# Altium footprint library Keebs.PcbLib: 219 footprints (part 9 of 14)
Each footprint in its own frame and in the unit in brackets; x right, y up, seen from the top. Pads: shape width x height; smd on the part's side, far side on the other; paste and mask are expansions set on the pad; w line width, h text height; cw(c..) or ccw(c..) is an arc to the next point about the centre after c.
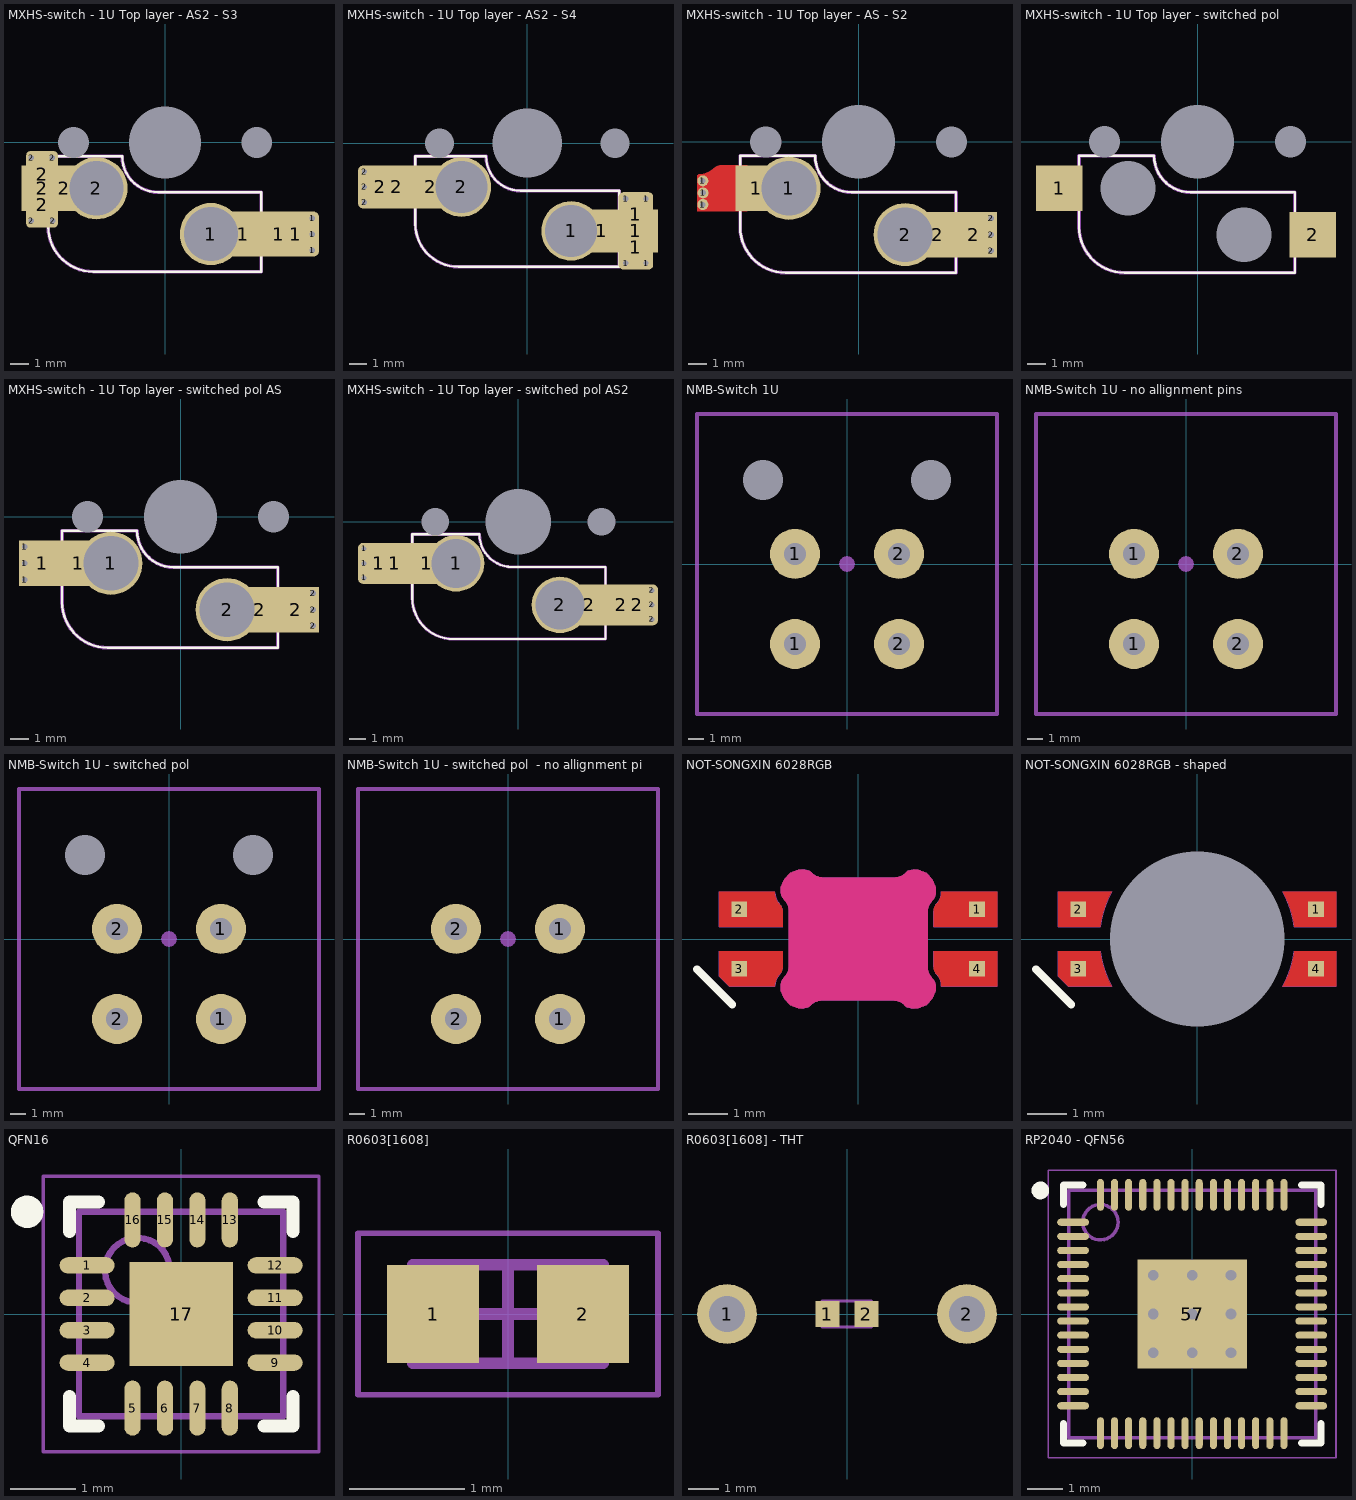
[diagram p8: the footprints below, top view; thin cyan lines are the x and y axes]

## MXHS-switch - 1U Top layer - AS2 - S3 [mm]
pads (19):
  round 3.45 hole 3 mask+0: 1(2.54,-5.08) 2(-3.81,-2.54)
  rect 2.55x2.5 smd paste-40 mask+0.102: 1(4.318,-5.08) 2(-5.588,-2.54)
  rect 2.55x2.5 smd: 1(6.29,-5.08)
  rrect25% 2.55x2.5 smd paste-40 mask+0.102: 1(7.25,-5.08)
  round 0.6 hole 0.3 mask+0.102: 1(8.15,-5.969) 1(8.15,-5.08) 1(8.15,-4.191) 2(-7.412,-4.349) 2(-7.412,-0.858) 2(-6.25,-0.858) 2(-6.234,-4.349)
  rrect25% 1.75x2.55 smd paste-40 mask+0.102: 2(-6.823,-3.449) 2(-6.823,-1.758)
  rect 2.3x2.5 smd: 2(-6.8,-2.54)
  round 1 hole 1.7 unplated: ""(-5.08,0) ""(5.08,0)
  round 1 hole 4 unplated: ""(0,0)
Top Overlay:
  lines w0.127: -6.481,-4.662 ccw(c-3.981,-4.662) -3.981,-7.162 5.319,-7.162 5.319,-2.762 -0.381,-2.762 cw(c-0.381,-0.762) -2.381,-0.762 -6.481,-0.762 -6.481,-4.662
Mechanical 13:
  lines w0.1: -0.5,0 0.5,0 ; 0,-0.5 0,0.5
  lines w0.2: -6.481,-4.662 ccw(c-3.981,-4.662) -3.981,-7.162 5.319,-7.162 5.319,-2.762 -0.381,-2.762 cw(c-0.381,-0.762) -2.381,-0.762 -6.481,-0.762 -6.481,-4.662
  text ".Designator" at 3.048,-4.826 h0.7
Mechanical 15:
  lines w0.1: -1.77,0 -0.77,0 ; 0,-0.5 0,0.5
  lines w0.127: -6.481,-4.662 ccw(c-3.981,-4.662) -3.981,-7.162 5.319,-7.162 5.319,-2.762 -0.381,-2.762 cw(c-0.381,-0.762) -2.381,-0.762 -6.481,-0.762 -6.481,-4.662
3D body "kailh_socket_mx.stp": height -0.35, standoff -3.4, extent -7.9,-6.745 6.6,-0.855

## MXHS-switch - 1U Top layer - AS2 - S4 [mm]
pads (19):
  round 3.45 hole 3 mask+0: 1(2.54,-5.08) 2(-3.81,-2.54)
  rect 2.55x2.5 smd paste-40 mask+0.102: 1(4.318,-5.08) 2(-5.588,-2.54)
  round 0.6 hole 0.3 mask+0.102: 1(5.701,-6.94) 1(5.701,-3.22) 1(6.879,-6.94) 1(6.879,-3.22) 2(-9.42,-3.429) 2(-9.42,-2.54) 2(-9.42,-1.651)
  rrect25% 2x2.55 smd paste-40 mask+0.102: 1(6.29,-6.04) 1(6.29,-4.12)
  rect 2.55x2.5 smd: 1(6.29,-5.08) 2(-7.56,-2.54)
  rrect25% 2.55x2.5 smd paste-40 mask+0.102: 2(-8.52,-2.54)
  round 1 hole 1.7 unplated: ""(-5.08,0) ""(5.08,0)
  round 1 hole 4 unplated: ""(0,0)
Top Overlay:
  lines w0.127: -6.481,-4.662 ccw(c-3.981,-4.662) -3.981,-7.162 5.319,-7.162 5.319,-2.762 -0.381,-2.762 cw(c-0.381,-0.762) -2.381,-0.762 -6.481,-0.762 -6.481,-4.662
Mechanical 13:
  lines w0.1: -0.5,0 0.5,0 ; 0,-0.5 0,0.5
  lines w0.2: -6.481,-4.662 ccw(c-3.981,-4.662) -3.981,-7.162 5.319,-7.162 5.319,-2.762 -0.381,-2.762 cw(c-0.381,-0.762) -2.381,-0.762 -6.481,-0.762 -6.481,-4.662
  text ".Designator" at 3.048,-4.826 h0.7
Mechanical 15:
  lines w0.1: -1.77,0 -0.77,0 ; 0,-0.5 0,0.5
  lines w0.127: -6.481,-4.662 ccw(c-3.981,-4.662) -3.981,-7.162 5.319,-7.162 5.319,-2.762 -0.381,-2.762 cw(c-0.381,-0.762) -2.381,-0.762 -6.481,-0.762 -6.481,-4.662
3D body "kailh_socket_mx.stp": height -0.35, standoff -3.4, extent -7.9,-6.745 6.6,-0.855

## MXHS-switch - 1U Top layer - AS - S2 [mm] "Adjusted footprint to prevent conflict with tray mount mounting hole"
pads (14):
  round 0.6 hole 0.3 mask+0.102: 1(-8.52,-3.429) 1(-8.52,-2.134) 1(-8.509,-2.794) 2(7.25,-5.969) 2(7.25,-5.08) 2(7.25,-4.191)
  rect 2.3x2.492 smd paste-40 mask+0.102: 1(-5.588,-2.54)
  round 3.45 hole 3 mask+0: 1(-3.81,-2.54) 2(2.54,-5.08)
  rect 2.55x2.5 smd paste-40 mask+0.102: 2(4.318,-5.08)
  rect 2.55x2.5 smd: 2(6.29,-5.08)
  round 1 hole 1.7 unplated: ""(-5.08,0) ""(5.08,0)
  round 1 hole 4 unplated: ""(0,0)
Top Layer:
  region: -6.096,-1.295 -6.096,-3.785 -8.839,-3.785 -8.839,-1.905 -8.839,-1.88 -8.82,-1.833 -8.784,-1.797 -8.737,-1.778 -8.712,-1.778 -8.606,-1.773 -8.398,-1.731 -8.201,-1.65 -8.025,-1.532 -7.946,-1.46 -7.906,-1.421 -7.814,-1.36 -7.712,-1.317 -7.603,-1.295 -7.547,-1.295
Top Overlay:
  lines w0.127: -6.481,-4.662 ccw(c-3.981,-4.662) -3.981,-7.162 5.319,-7.162 5.319,-2.762 -0.381,-2.762 cw(c-0.381,-0.762) -2.381,-0.762 -6.481,-0.762 -6.481,-4.662
Mechanical 13:
  lines w0.1: -0.5,0 0.5,0 ; 0,-0.5 0,0.5
  lines w0.2: -6.481,-4.662 ccw(c-3.981,-4.662) -3.981,-7.162 5.319,-7.162 5.319,-2.762 -0.381,-2.762 cw(c-0.381,-0.762) -2.381,-0.762 -6.481,-0.762 -6.481,-4.662
  text ".Designator" at 3.048,-4.826 h0.7
Mechanical 15:
  lines w0.1: -1.77,0 -0.77,0 ; 0,-0.5 0,0.5
  lines w0.127: -6.481,-4.662 ccw(c-3.981,-4.662) -3.981,-7.162 5.319,-7.162 5.319,-2.762 -0.381,-2.762 cw(c-0.381,-0.762) -2.381,-0.762 -6.481,-0.762 -6.481,-4.662
3D body "kailh_socket_mx.stp": height -0.35, standoff -3.4, extent -7.9,-6.745 6.6,-0.855

## MXHS-switch - 1U Top layer - switched pol [mm]
pads (7):
  rect 2.55x2.5 smd: 1(-7.56,-2.54) 2(6.29,-5.08)
  round 1 hole 1.7 unplated: ""(-5.08,0) ""(5.08,0)
  round 0 hole 3 unplated: ""(-3.81,-2.54) ""(2.54,-5.08)
  round 1 hole 4 unplated: ""(0,0)
Top Overlay:
  lines w0.127: -6.481,-4.662 ccw(c-3.981,-4.662) -3.981,-7.162 5.319,-7.162 5.319,-2.762 -0.381,-2.762 cw(c-0.381,-0.762) -2.381,-0.762 -6.481,-0.762 -6.481,-4.662
Mechanical 13:
  lines w0.1: -0.5,0 0.5,0 ; 0,-0.5 0,0.5
  lines w0.2: -6.481,-4.662 ccw(c-3.981,-4.662) -3.981,-7.162 5.319,-7.162 5.319,-2.762 -0.381,-2.762 cw(c-0.381,-0.762) -2.381,-0.762 -6.481,-0.762 -6.481,-4.662
  text ".Designator" at 3.048,-4.826 h0.7
Mechanical 15:
  lines w0.1: -1.77,0 -0.77,0 ; 0,-0.5 0,0.5
  lines w0.127: -6.481,-4.662 ccw(c-3.981,-4.662) -3.981,-7.162 5.319,-7.162 5.319,-2.762 -0.381,-2.762 cw(c-0.381,-0.762) -2.381,-0.762 -6.481,-0.762 -6.481,-4.662
3D body "kailh_socket_mx.stp": height -0.35, standoff -3.4, extent -7.9,-6.745 6.6,-0.855

## MXHS-switch - 1U Top layer - switched pol AS [mm]
pads (15):
  round 0.6 hole 0.3 mask+0.102: 1(-8.52,-3.429) 1(-8.52,-2.54) 1(-8.52,-1.651) 2(7.25,-5.969) 2(7.25,-5.08) 2(7.25,-4.191)
  rect 2.55x2.5 smd: 1(-7.56,-2.54) 2(6.29,-5.08)
  rect 2.55x2.5 smd paste-40 mask+0.102: 1(-5.588,-2.54) 2(4.318,-5.08)
  round 3.45 hole 3 mask+0: 1(-3.81,-2.54) 2(2.54,-5.08)
  round 1 hole 1.7 unplated: ""(-5.08,0) ""(5.08,0)
  round 1 hole 4 unplated: ""(0,0)
Top Overlay:
  lines w0.127: -6.481,-4.662 ccw(c-3.981,-4.662) -3.981,-7.162 5.319,-7.162 5.319,-2.762 -0.381,-2.762 cw(c-0.381,-0.762) -2.381,-0.762 -6.481,-0.762 -6.481,-4.662
Mechanical 13:
  lines w0.1: -0.5,0 0.5,0 ; 0,-0.5 0,0.5
  lines w0.2: -6.481,-4.662 ccw(c-3.981,-4.662) -3.981,-7.162 5.319,-7.162 5.319,-2.762 -0.381,-2.762 cw(c-0.381,-0.762) -2.381,-0.762 -6.481,-0.762 -6.481,-4.662
  text ".Designator" at 3.048,-4.826 h0.7
Mechanical 15:
  lines w0.1: -1.77,0 -0.77,0 ; 0,-0.5 0,0.5
  lines w0.127: -6.481,-4.662 ccw(c-3.981,-4.662) -3.981,-7.162 5.319,-7.162 5.319,-2.762 -0.381,-2.762 cw(c-0.381,-0.762) -2.381,-0.762 -6.481,-0.762 -6.481,-4.662
3D body "kailh_socket_mx.stp": height -0.35, standoff -3.4, extent -7.9,-6.745 6.6,-0.855

## MXHS-switch - 1U Top layer - switched pol AS2 [mm]
pads (17):
  round 0.6 hole 0.3 mask+0.102: 1(-9.42,-3.429) 1(-9.42,-2.54) 1(-9.42,-1.651) 2(8.15,-5.969) 2(8.15,-5.08) 2(8.15,-4.191)
  rrect25% 2.55x2.5 smd paste-40 mask+0.102: 1(-8.52,-2.54) 2(7.25,-5.08)
  rect 2.55x2.5 smd: 1(-7.56,-2.54) 2(6.29,-5.08)
  rect 2.55x2.5 smd paste-40 mask+0.102: 1(-5.588,-2.54) 2(4.318,-5.08)
  round 3.45 hole 3 mask+0: 1(-3.81,-2.54) 2(2.54,-5.08)
  round 1 hole 1.7 unplated: ""(-5.08,0) ""(5.08,0)
  round 1 hole 4 unplated: ""(0,0)
Top Overlay:
  lines w0.127: -6.481,-4.662 ccw(c-3.981,-4.662) -3.981,-7.162 5.319,-7.162 5.319,-2.762 -0.381,-2.762 cw(c-0.381,-0.762) -2.381,-0.762 -6.481,-0.762 -6.481,-4.662
Mechanical 13:
  lines w0.1: -0.5,0 0.5,0 ; 0,-0.5 0,0.5
  lines w0.2: -6.481,-4.662 ccw(c-3.981,-4.662) -3.981,-7.162 5.319,-7.162 5.319,-2.762 -0.381,-2.762 cw(c-0.381,-0.762) -2.381,-0.762 -6.481,-0.762 -6.481,-4.662
  text ".Designator" at 3.048,-4.826 h0.7
Mechanical 15:
  lines w0.1: -1.77,0 -0.77,0 ; 0,-0.5 0,0.5
  lines w0.127: -6.481,-4.662 ccw(c-3.981,-4.662) -3.981,-7.162 5.319,-7.162 5.319,-2.762 -0.381,-2.762 cw(c-0.381,-0.762) -2.381,-0.762 -6.481,-0.762 -6.481,-4.662
3D body "kailh_socket_mx.stp": height -0.35, standoff -3.4, extent -7.9,-6.745 6.6,-0.855

## NMB-Switch 1U [mm]
pads (7):
  round 3.18 hole 1.4 mask+0.102: 1(-3.3,-5.08) 1(-3.3,0.64) 2(3.3,-5.08) 2(3.3,0.64)
  round 0 hole 2.54 unplated mask+0.102: ""(-5.33,5.33) ""(5.33,5.33)
  round 1 on Mech13: ""(0,0)
Mechanical 13:
  lines w0.254: -9.525,-9.525 -9.525,9.525 9.525,9.525 9.525,-9.525 -9.525,-9.525
  text ".Designator" at -3.575,-3.7 h0.7

## NMB-Switch 1U - no allignment pins [mm]
pads (5):
  round 3.18 hole 1.4 mask+0.102: 1(-3.3,-5.08) 1(-3.3,0.64) 2(3.3,-5.08) 2(3.3,0.64)
  round 1 on Mech13: ""(0,0)
Mechanical 13:
  lines w0.254: -9.525,-9.525 -9.525,9.525 9.525,9.525 9.525,-9.525 -9.525,-9.525
  text ".Designator" at -3.575,-3.7 h0.7

## NMB-Switch 1U - switched pol [mm]
pads (7):
  round 3.18 hole 1.4 mask+0.102: 1(3.3,-5.08) 1(3.3,0.64) 2(-3.3,-5.08) 2(-3.3,0.64)
  round 0 hole 2.54 unplated mask+0.102: ""(-5.33,5.33) ""(5.33,5.33)
  round 1 on Mech13: ""(0,0)
Mechanical 13:
  lines w0.254: -9.525,-9.525 9.525,-9.525 9.525,9.525 -9.525,9.525 -9.525,-9.525
  text ".Designator" at -3.575,-3.7 h0.7

## NMB-Switch 1U - switched pol  - no allignment pins [mm]
pads (5):
  round 3.18 hole 1.4 mask+0.102: 1(3.3,-5.08) 1(3.3,0.64) 2(-3.3,-5.08) 2(-3.3,0.64)
  round 1 on Mech13: ""(0,0)
Mechanical 13:
  lines w0.254: -9.525,-9.525 9.525,-9.525 9.525,9.525 -9.525,9.525 -9.525,-9.525
  text ".Designator" at -3.575,-3.7 h0.7

## NOT-SONGXIN 6028RGB [mm] "Uncommon Anode reverse mount LED"
pads (4):
  rect 0.4x0.4 smd: 1(3,0.75) 2(-3,0.75) 3(-3,-0.75) 4(3,-0.75)
Top Layer:
  region: -3.5,0.304 -3.5,1.195 -2.1,1.195 -2.1,1.172 -2.098,1.13 -2.082,1.048 -2.05,0.97 -2.003,0.901 -1.975,0.869 -1.957,0.852 -1.929,0.81 -1.91,0.763 -1.9,0.714 -1.9,0.688 -1.9,0.304
  region: -3.25,-1.195 -3.5,-0.945 -3.5,-0.304 -1.9,-0.304 -1.9,-0.702 -1.9,-0.727 -1.91,-0.776 -1.929,-0.823 -1.957,-0.865 -1.975,-0.883 -2.003,-0.914 -2.05,-0.984 -2.082,-1.061 -2.098,-1.143 -2.1,-1.185 -2.1,-1.195
  region: 1.975,-0.883 1.957,-0.865 1.929,-0.823 1.91,-0.776 1.9,-0.727 1.9,-0.702 1.9,-0.304 3.5,-0.304 3.5,-1.195 2.1,-1.195 2.1,-1.185 2.098,-1.143 2.082,-1.061 2.05,-0.984 2.003,-0.914
  region: 1.9,0.702 1.9,0.727 1.91,0.776 1.929,0.823 1.957,0.865 1.975,0.883 2.003,0.914 2.05,0.984 2.082,1.061 2.098,1.143 2.1,1.185 2.1,1.195 3.5,1.195 3.5,0.304 1.9,0.304
  pour cut-out: -1.95,-1.2 -1.95,-1.198 -1.95,-1.195 -1.95,-1.192 -1.949,-1.188 -1.949,-1.187 -1.949,-1.185 -1.95,-1.182 -1.95,-1.178 -1.95,-1.175 -1.95,-1.173 -1.95,-1.143 -1.939,-1.085 -1.916,-1.029 -1.882,-0.979 -1.861,-0.958 -1.836,-0.93 -1.794,-0.868 -1.765,-0.798 -1.751,-0.725 -1.749,-0.687 -1.749,0.714 -1.751,0.751 -1.765,0.825 -1.794,0.894 -1.836,0.957 -1.861,0.985 -1.882,1.006 -1.916,1.056 -1.939,1.111 -1.95,1.17 -1.95,1.2 -1.95,1.309 -1.867,1.512 -1.712,1.667 -1.509,1.75 -1.4,1.75 -1.373,1.75 -1.343,1.75 -1.285,1.739 -1.229,1.716 -1.179,1.682 -1.158,1.661 -1.13,1.636 -1.068,1.594 -0.998,1.565 -0.925,1.551 -0.887,1.549 0.914,1.549 0.951,1.551 1.025,1.565 1.094,1.594 1.157,1.636 1.185,1.661 1.206,1.682 1.256,1.716 1.311,1.739 1.37,1.75 1.4,1.75 1.509,1.75 1.712,1.667 1.867,1.512 1.95,1.309 1.95,1.2 1.95,1.198 1.95,1.195 1.95,1.192 1.949,1.188 1.949,1.187 1.949,1.185 1.95,1.182 1.95,1.178 1.95,1.175 1.95,1.173 1.95,1.143 1.939,1.085 1.916,1.029 1.882,0.979 1.861,0.958 1.836,0.93 1.794,0.868 1.765,0.798 1.751,0.725 1.749,0.687 1.749,-0.714 1.751,-0.751 1.765,-0.825 1.794,-0.894 1.836,-0.957 1.861,-0.985 1.882,-1.006 1.916,-1.056 1.939,-1.111 1.95,-1.17 1.95,-1.2 1.95,-1.309 1.867,-1.512 1.712,-1.667 1.509,-1.75 1.4,-1.75 1.398,-1.75 1.395,-1.75 1.392,-1.75 1.388,-1.749 1.387,-1.749 1.385,-1.749 1.382,-1.75 1.378,-1.75 1.375,-1.75 1.373,-1.75 1.343,-1.75 1.285,-1.739 1.229,-1.716 1.179,-1.682 1.158,-1.661 1.13,-1.636 1.068,-1.594 0.998,-1.565 0.925,-1.551 0.887,-1.549 -0.914,-1.549 -0.951,-1.551 -1.025,-1.565 -1.094,-1.594 -1.157,-1.636 -1.185,-1.661 -1.206,-1.682 -1.256,-1.716 -1.311,-1.739 -1.37,-1.75 -1.4,-1.75 -1.509,-1.75 -1.712,-1.667 -1.867,-1.512 -1.95,-1.309
Bottom Layer:
  pour cut-out: -1.95,-1.2 -1.95,-1.198 -1.95,-1.195 -1.95,-1.192 -1.949,-1.188 -1.949,-1.187 -1.949,-1.185 -1.95,-1.182 -1.95,-1.178 -1.95,-1.175 -1.95,-1.173 -1.95,-1.143 -1.939,-1.085 -1.916,-1.029 -1.882,-0.979 -1.861,-0.958 -1.836,-0.93 -1.794,-0.868 -1.765,-0.798 -1.751,-0.725 -1.749,-0.687 -1.749,0.714 -1.751,0.751 -1.765,0.825 -1.794,0.894 -1.836,0.957 -1.861,0.985 -1.882,1.006 -1.916,1.056 -1.939,1.111 -1.95,1.17 -1.95,1.2 -1.95,1.309 -1.867,1.512 -1.712,1.667 -1.509,1.75 -1.4,1.75 -1.373,1.75 -1.343,1.75 -1.285,1.739 -1.229,1.716 -1.179,1.682 -1.158,1.661 -1.13,1.636 -1.068,1.594 -0.998,1.565 -0.925,1.551 -0.887,1.549 0.914,1.549 0.951,1.551 1.025,1.565 1.094,1.594 1.157,1.636 1.185,1.661 1.206,1.682 1.256,1.716 1.311,1.739 1.37,1.75 1.4,1.75 1.509,1.75 1.712,1.667 1.867,1.512 1.95,1.309 1.95,1.2 1.95,1.198 1.95,1.195 1.95,1.192 1.949,1.188 1.949,1.187 1.949,1.185 1.95,1.182 1.95,1.178 1.95,1.175 1.95,1.173 1.95,1.143 1.939,1.085 1.916,1.029 1.882,0.979 1.861,0.958 1.836,0.93 1.794,0.868 1.765,0.798 1.751,0.725 1.749,0.687 1.749,-0.714 1.751,-0.751 1.765,-0.825 1.794,-0.894 1.836,-0.957 1.861,-0.985 1.882,-1.006 1.916,-1.056 1.939,-1.111 1.95,-1.17 1.95,-1.2 1.95,-1.309 1.867,-1.512 1.712,-1.667 1.509,-1.75 1.4,-1.75 1.398,-1.75 1.395,-1.75 1.392,-1.75 1.388,-1.749 1.387,-1.749 1.385,-1.749 1.382,-1.75 1.378,-1.75 1.375,-1.75 1.373,-1.75 1.343,-1.75 1.285,-1.739 1.229,-1.716 1.179,-1.682 1.158,-1.661 1.13,-1.636 1.068,-1.594 0.998,-1.565 0.925,-1.551 0.887,-1.549 -0.914,-1.549 -0.951,-1.551 -1.025,-1.565 -1.094,-1.594 -1.157,-1.636 -1.185,-1.661 -1.206,-1.682 -1.256,-1.716 -1.311,-1.739 -1.37,-1.75 -1.4,-1.75 -1.509,-1.75 -1.712,-1.667 -1.867,-1.512 -1.95,-1.309
Top Overlay:
  lines w0.2: -4.064,-0.762 -3.175,-1.651
Keep-Out Layer:
  board cut-out: -1.95,-1.2 -1.95,-1.198 -1.95,-1.195 -1.95,-1.192 -1.949,-1.188 -1.949,-1.187 -1.949,-1.185 -1.95,-1.182 -1.95,-1.178 -1.95,-1.175 -1.95,-1.173 -1.95,-1.143 -1.939,-1.085 -1.916,-1.029 -1.882,-0.979 -1.861,-0.958 -1.836,-0.93 -1.794,-0.868 -1.765,-0.798 -1.751,-0.725 -1.749,-0.687 -1.749,0.714 -1.751,0.751 -1.765,0.825 -1.794,0.894 -1.836,0.957 -1.861,0.985 -1.882,1.006 -1.916,1.056 -1.939,1.111 -1.95,1.17 -1.95,1.2 -1.95,1.309 -1.867,1.512 -1.712,1.667 -1.509,1.75 -1.4,1.75 -1.373,1.75 -1.343,1.75 -1.285,1.739 -1.229,1.716 -1.179,1.682 -1.158,1.661 -1.13,1.636 -1.068,1.594 -0.998,1.565 -0.925,1.551 -0.887,1.549 0.914,1.549 0.951,1.551 1.025,1.565 1.094,1.594 1.157,1.636 1.185,1.661 1.206,1.682 1.256,1.716 1.311,1.739 1.37,1.75 1.4,1.75 1.509,1.75 1.712,1.667 1.867,1.512 1.95,1.309 1.95,1.2 1.95,1.198 1.95,1.195 1.95,1.192 1.949,1.188 1.949,1.187 1.949,1.185 1.95,1.182 1.95,1.178 1.95,1.175 1.95,1.173 1.95,1.143 1.939,1.085 1.916,1.029 1.882,0.979 1.861,0.958 1.836,0.93 1.794,0.868 1.765,0.798 1.751,0.725 1.749,0.687 1.749,-0.714 1.751,-0.751 1.765,-0.825 1.794,-0.894 1.836,-0.957 1.861,-0.985 1.882,-1.006 1.916,-1.056 1.939,-1.111 1.95,-1.17 1.95,-1.2 1.95,-1.309 1.867,-1.512 1.712,-1.667 1.509,-1.75 1.4,-1.75 1.398,-1.75 1.395,-1.75 1.392,-1.75 1.388,-1.749 1.387,-1.749 1.385,-1.749 1.382,-1.75 1.378,-1.75 1.375,-1.75 1.373,-1.75 1.343,-1.75 1.285,-1.739 1.229,-1.716 1.179,-1.682 1.158,-1.661 1.13,-1.636 1.068,-1.594 0.998,-1.565 0.925,-1.551 0.887,-1.549 -0.914,-1.549 -0.951,-1.551 -1.025,-1.565 -1.094,-1.594 -1.157,-1.636 -1.185,-1.661 -1.206,-1.682 -1.256,-1.716 -1.311,-1.739 -1.37,-1.75 -1.4,-1.75 -1.509,-1.75 -1.712,-1.667 -1.867,-1.512 -1.95,-1.309
Mechanical 1:
  lines w0.1: -1.9,-1.2 ccw(c-1.4,-1.2) -1.4,-1.7 ccw(c-1.4,-1.446) -1.22,-1.626 cw(c-0.914,-1.932) -0.914,-1.499 0.887,-1.499 cw(c0.887,-1.932) 1.194,-1.626 ccw(c1.373,-1.446) 1.373,-1.7 ; -1.9,-1.173 cw(c-1.646,-1.173) -1.826,-0.994 ccw(c-2.132,-0.687) -1.699,-0.687 -1.699,0.714 ccw(c-2.132,0.714) -1.826,1.02 cw(c-1.646,1.2) -1.9,1.2 cw(c-1.4,1.2) -1.4,1.7 -1.373,1.7 cw(c-1.373,1.446) -1.194,1.626 ccw(c-0.887,1.932) -0.887,1.499 0.914,1.499 ccw(c0.914,1.932) 1.22,1.626 cw(c1.4,1.446) 1.4,1.7 cw(c1.4,1.2) 1.9,1.2 ; 1.4,-1.7 ccw(c1.4,-1.2) 1.9,-1.2 ccw(c1.646,-1.2) 1.826,-1.02 cw(c2.132,-0.714) 1.699,-0.714 1.699,0.687 cw(c2.132,0.687) 1.826,0.994 ccw(c1.646,1.173) 1.9,1.173
Mechanical 7:
  lines w0.01: -2.1,1.172 ccw(c-1.672,1.172) -1.975,0.869 cw(c-2.156,0.688) -1.9,0.688 -1.9,0.618 -1.9,0.304 -2.449,0.304 -3.455,0.304 -3.5,0.304 -3.5,0.349 -3.5,1.154 -3.5,1.195 -2.1,1.195 -2.1,1.175 ; 3.5,-1.195 2.1,-1.195 2.1,-1.185 ccw(c1.672,-1.185) 1.975,-0.883 cw(c2.156,-0.702) 1.9,-0.702 1.9,-0.618 1.9,-0.304 2.449,-0.304 3.455,-0.304 3.5,-0.304 ; 3.5,-1.195 3.5,-1.154 ; 3.5,-1.195 3.5,-1.154 ; 3.5,-1.154 3.5,-0.349 ; 3.5,-1.154 3.5,-0.349 ; 3.5,-0.349 3.5,-0.304 ; 3.5,-0.349 3.5,-0.304 ; 3.5,0.304 3.455,0.304 2.449,0.304 1.9,0.304 1.9,0.618 1.9,0.702 cw(c2.156,0.702) 1.975,0.883 ccw(c1.672,1.185) 2.1,1.185 2.1,1.195 3.5,1.195 ; 3.5,0.304 3.5,0.349 ; 3.5,0.304 3.5,0.349 ; 3.5,0.349 3.5,1.154 ; 3.5,0.349 3.5,1.154 ; 3.5,1.154 3.5,1.195 ; 3.5,1.154 3.5,1.195 ; -3.5,-0.945 -3.25,-1.195 -2.464,-1.195 -2.1,-1.195 -2.1,-1.185 cw(c-1.672,-1.185) -1.975,-0.883 ccw(c-2.156,-0.702) -1.9,-0.702 -1.9,-0.618 -1.9,-0.304 -2.449,-0.304 -3.455,-0.304 -3.5,-0.304 -3.5,-0.945
Mechanical 13:
  lines w0.1: -1.6,-1.4 1.6,-1.4 1.6,1.4 -1.6,1.4 -1.6,-1.4
  text ".Designator" at -1.27,-0.127 h0.35
3D body "LED_SK6812MINI-E.step": height 0.94, standoff -0.84, extent -2.94,-1.403 2.94,1.397

## NOT-SONGXIN 6028RGB - shaped [mm] "Uncommon Anode reverse mount LED"
pads (5):
  rect 0.4x0.4 smd: 1(3,0.75) 2(-3,0.75) 3(-3,-0.75) 4(3,-0.75)
  round 1 hole 4.4 unplated: ""(0,0)
Top Layer:
  region: -3.25,-1.195 -3.5,-0.945 -3.5,-0.304 -2.449,-0.304 -2.447,-0.304 -2.43,-0.421 -2.378,-0.651 -2.305,-0.875 -2.211,-1.091 -2.157,-1.195
  region: 2.157,-1.195 3.5,-1.195 3.5,-0.304 2.449,-0.304 2.447,-0.304 2.43,-0.421 2.378,-0.651 2.305,-0.875 2.211,-1.091
  region: 2.447,0.304 2.43,0.421 2.378,0.651 2.305,0.875 2.211,1.091 2.157,1.195 3.5,1.195 3.5,0.304
  region: -3.5,0.304 -3.5,1.195 -2.157,1.195 -2.211,1.091 -2.305,0.875 -2.378,0.651 -2.43,0.421 -2.447,0.304 -2.449,0.304
Top Overlay:
  lines w0.2: -4.064,-0.762 -3.175,-1.651
Mechanical 7:
  lines w0.01: -2.449,-0.304 -3.455,-0.304 -3.5,-0.304 -3.5,-0.945 -3.25,-1.195 -2.211,-1.195 -2.157,-1.195 cw(c0,0) -2.447,-0.304 ; -2.449,0.304 -3.455,0.304 -3.5,0.304 -3.5,0.349 -3.5,1.154 -3.5,1.195 -3.476,1.195 -2.211,1.195 -2.157,1.195 ccw(c0,0) -2.447,0.304 ; 2.447,-0.304 cw(c0,0) 2.157,-1.195 2.211,-1.195 3.476,-1.195 3.5,-1.195 3.5,-1.154 3.5,-0.349 3.5,-0.304 3.455,-0.304 2.449,-0.304 ; 2.447,0.304 ccw(c0,0) 2.157,1.195 2.211,1.195 3.476,1.195 3.5,1.195 3.5,1.154 3.5,0.349 3.5,0.304 3.455,0.304 2.449,0.304
Mechanical 13:
  lines w0.1: -1.6,-1.4 1.6,-1.4 1.6,1.4 -1.6,1.4 -1.6,-1.4
  text ".Designator" at -1.27,-0.127 h0.35
3D body "LED_SK6812MINI-E.step": height 0.94, standoff -0.84, extent -2.94,-1.403 2.94,1.397

## QFN16 [mm] "Generated for BQ24075RGTR"
height 1
pads (17):
  oval 0.85x0.25 smd: 1(-1.45,0.75) 2(-1.45,0.25) 3(-1.45,-0.25) 4(-1.45,-0.75) 9(1.45,-0.75) 10(1.45,-0.25) 11(1.45,0.25) 12(1.45,0.75)
  oval 0.25x0.85 smd: 5(-0.75,-1.45) 6(-0.25,-1.45) 7(0.25,-1.45) 8(0.75,-1.45) 13(0.75,1.45) 14(0.25,1.45) 15(-0.25,1.45) 16(-0.75,1.45)
  rect 1.6x1.6 smd: 17(0,0)
Top Overlay:
  circle w0.25: c-2.375,1.575 r0.125
  lines w0.2: -1.725,-1.275 -1.725,-1.725 -1.275,-1.725 ; -1.725,1.275 -1.725,1.725 -1.275,1.725 ; 1.275,-1.725 1.725,-1.725 1.725,-1.275 ; 1.275,1.725 1.725,1.725 1.725,1.275
Mechanical 13:
  circle w0.1: c-0.675,0.675 r0.5
  lines w0.1: -1.575,-1.575 1.575,-1.575 1.575,1.575 -1.575,1.575 -1.575,-1.575
  text ".Designator" at -0.991,-1.067 h0.35
Mechanical 15:
  lines w0.05: -2.125,-2.125 2.125,-2.125 2.125,2.125 -2.125,2.125 -2.125,-2.125
  lines w0.1: -0.5,0 0.5,0 ; 0,-0.5 0,0.5
3D body "QFN16.step": height 1, standoff 0, extent -1.655,-1.655 1.655,1.655

## R0603[1608] [mm] "Chip Resistor, 2-Leads, Body 1,57x0,80mm, IPC Medium Density"
height 0.5
pads (2):
  rect 0.8x0.85 smd: 1(-0.65,0) 2(0.65,0)
Mechanical 13:
  lines w0.1: -0.825,-0.425 0.825,-0.425 0.825,0.425 -0.825,0.425 -0.825,-0.425
  text ".Designator" at -1.05,-0.275 h0.35
Mechanical 15:
  lines w0.05: -1.3,-0.7 1.3,-0.7 1.3,0.7 -1.3,0.7 -1.3,-0.7
  lines w0.1: -0.425,0 0.425,0 ; 0,-0.425 0,0.425
3D body: height 0.5, standoff 0, extent -0.525,-0.425 0.525,0.425
3D body: height 0.5, standoff 0, extent 0.525,-0.425 0.825,0.425
3D body: height 0.5, standoff 0, extent -0.825,-0.425 -0.525,0.425

## R0603[1608] - THT [mm] "Chip Resistor, 2-Leads, Body 1,57x0,80mm, IPC Medium Density"
height 0.5
pads (4):
  round 2 hole 1.2: 1(-4,0) 2(4,0)
  rect 0.8x0.85 smd paste-6: 1(-0.65,0) 2(0.65,0)
Mechanical 13:
  lines w0.1: -0.825,-0.425 0.825,-0.425 0.825,0.425 -0.825,0.425 -0.825,-0.425
  text ".Designator" at -0.635,-0.127 h0.35

## RP2040 - QFN56 [mm]
height 0.9
pads (57):
  oval 0.9x0.2 smd: 1(-3.375,2.6) 2(-3.375,2.2) 3(-3.375,1.8) 4(-3.375,1.4) 5(-3.375,1) 6(-3.375,0.6) 7(-3.375,0.2) 8(-3.375,-0.2) 9(-3.375,-0.6) 10(-3.375,-1) 11(-3.375,-1.4) 12(-3.375,-1.8) 13(-3.375,-2.2) 14(-3.375,-2.6) 29(3.375,-2.6) 30(3.375,-2.2) 31(3.375,-1.8) 32(3.375,-1.4) 33(3.375,-1) 34(3.375,-0.6) 35(3.375,-0.2) 36(3.375,0.2) 37(3.375,0.6) 38(3.375,1) 39(3.375,1.4) 40(3.375,1.8) 41(3.375,2.2) 42(3.375,2.6)
  oval 0.2x0.9 smd: 15(-2.6,-3.375) 16(-2.2,-3.375) 17(-1.8,-3.375) 18(-1.4,-3.375) 19(-1,-3.375) 20(-0.6,-3.375) 21(-0.2,-3.375) 22(0.2,-3.375) 23(0.6,-3.375) 24(1,-3.375) 25(1.4,-3.375) 26(1.8,-3.375) 27(2.2,-3.375) 28(2.6,-3.375) 43(2.6,3.375) 44(2.2,3.375) 45(1.8,3.375) 46(1.4,3.375) 47(1,3.375) 48(0.6,3.375) 49(0.2,3.375) 50(-0.2,3.375) 51(-0.6,3.375) 52(-1,3.375) 53(-1.4,3.375) 54(-1.8,3.375) 55(-2.2,3.375) 56(-2.6,3.375)
  rect 3.1x3.1 smd: 57(0,0)
via -1.1,1.1 diameter 0.6 hole 0.3
via 0,1.1 diameter 0.6 hole 0.3
via 1.1,1.1 diameter 0.6 hole 0.3
via -1.1,0 diameter 0.6 hole 0.3
via 0,0 diameter 0.6 hole 0.3
via 1.1,0 diameter 0.6 hole 0.3
via -1.1,-1.1 diameter 0.6 hole 0.3
via 0,-1.1 diameter 0.6 hole 0.3
via 1.1,-1.1 diameter 0.6 hole 0.3
Top Overlay:
  circle w0.25: c-4.3,3.5 r0.125
  lines w0.2: -3.65,-3.1 -3.65,-3.65 -3.1,-3.65 ; -3.65,3.1 -3.65,3.65 -3.1,3.65 ; 3.1,-3.65 3.65,-3.65 3.65,-3.1 ; 3.1,3.65 3.65,3.65 3.65,3.1
Mechanical 13:
  circle w0.1: c-2.6,2.6 r0.5
  lines w0.1: -3.5,-3.5 -3.5,3.5 3.5,3.5 3.5,-3.5 -3.5,-3.5
  text ".Designator" at -1.586,-0.17 h0.35
Mechanical 15:
  lines w0.05: -4.075,-4.075 -4.075,4.075 4.075,4.075 4.075,-4.075 -4.075,-4.075
  lines w0.1: -0.5,0 0.5,0 ; 0,-0.5 0,0.5
3D body "RP2040 - QFN56.step": height 0.9, standoff 0, extent -3.51,-3.51 3.51,3.51